# Altium footprint library MLACHM_M.PCBLIB: 91 footprints (part 3 of 7)
Each footprint in its own frame and in the unit in brackets; x right, y up, seen from the top. Pads: shape width x height; smd on the part's side, far side on the other; paste and mask are expansions set on the pad; w line width, h text height; cw(c..) or ccw(c..) is an arc to the next point about the centre after c.
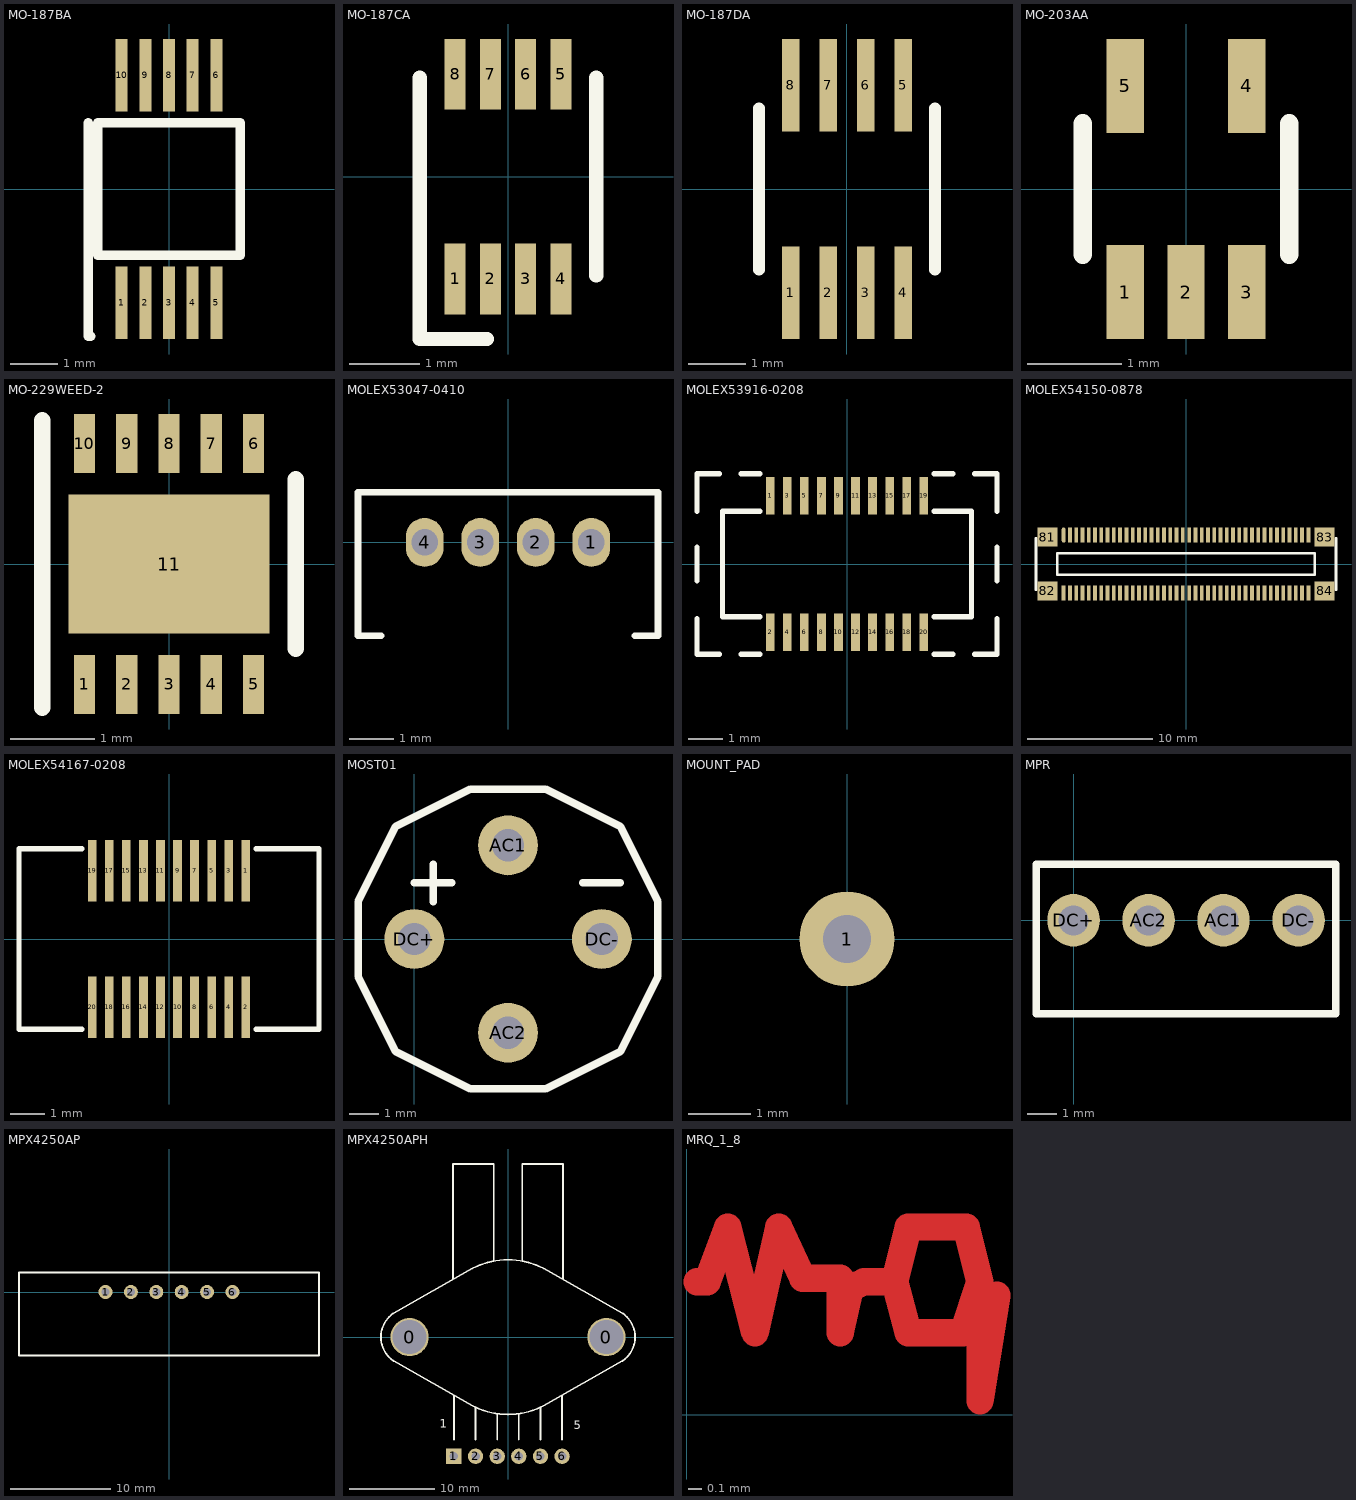
[diagram p2: the footprints below, top view; thin cyan lines are the x and y axes]

## MO-187BA [mil]
pads (10):
  rect 10x60 smd mask+6: 1(-39.37,-94.49) 2(-19.68,-94.49) 3(0,-94.49) 4(19.68,-94.49) 5(39.37,-94.49) 6(39.37,94.49) 7(19.69,94.49) 8(0,94.49) 9(-19.68,94.49) 10(-39.37,94.49)
TopOverlay:
  lines w7.87: -66.93,55.12 -66.93,-122.05 -64.96,-122.05
  lines w8: -59.06,-55 59.06,-55 59.06,55 -59.06,55 -59.06,-55
3D body: height 9.84, standoff 0, extent 35.43,-98.43 43.31,-74.8
3D body: height 43.31, standoff 9.84, extent -59.06,-59.06 59.06,59.06
3D body: height 25.59, standoff 9.84, extent 35.43,-78.74 43.31,-55.12
3D body: height 25.59, standoff 9.84, extent 15.75,-78.74 23.62,-55.12
3D body: height 9.84, standoff 0, extent 15.75,-98.43 23.62,-74.8
3D body: height 25.59, standoff 9.84, extent -3.94,-78.74 3.94,-55.12
3D body: height 9.84, standoff 0, extent -3.94,-98.43 3.94,-74.8
3D body: height 25.59, standoff 9.84, extent -23.62,-78.74 -15.75,-55.12
3D body: height 9.84, standoff 0, extent -23.62,-98.43 -15.75,-74.8
3D body: height 25.59, standoff 9.84, extent -43.31,-78.74 -35.43,-55.12
3D body: height 9.84, standoff 0, extent -43.31,-98.43 -35.43,-74.8
3D body: height 9.84, standoff 0, extent 35.43,74.8 43.31,98.43
3D body: height 25.59, standoff 9.84, extent 35.43,55.12 43.31,78.74
3D body: height 9.84, standoff 0, extent 15.75,74.8 23.62,98.43
3D body: height 25.59, standoff 9.84, extent 15.75,55.12 23.62,78.74
3D body: height 9.84, standoff 0, extent -3.94,74.8 3.94,98.43
3D body: height 25.59, standoff 9.84, extent -3.94,55.12 3.94,78.74
3D body: height 9.84, standoff 0, extent -23.62,74.8 -15.75,98.43
3D body: height 25.59, standoff 9.84, extent -23.62,55.12 -15.75,78.74
3D body: height 25.59, standoff 9.84, extent -43.31,55.12 -35.43,78.74
3D body: height 9.84, standoff 0, extent -43.31,74.8 -35.43,98.43

## MO-187CA [mm]
pads (8):
  rect 0.3x1 smd mask+0.152: 1(-0.75,-1.45) 2(-0.25,-1.45) 3(0.25,-1.45) 4(0.75,-1.45) 5(0.75,1.45) 6(0.25,1.45) 7(-0.25,1.45) 8(-0.75,1.45)
TopOverlay:
  lines w0.2: -1.25,-2.3 -0.3,-2.3
  lines w0.203: -1.25,-2.3 -1.25,1.4 ; 1.25,-1.4 1.25,1.4
3D body: height 0.25, standoff 0, extent 0.65,1.25 0.85,1.55
3D body: height 0.65, standoff 0.25, extent 0.65,1.05 0.85,1.35
3D body: height 0.65, standoff 0.25, extent 0.15,1.05 0.35,1.35
3D body: height 0.25, standoff 0, extent 0.15,1.25 0.35,1.55
3D body: height 0.65, standoff 0.25, extent -0.35,1.05 -0.15,1.35
3D body: height 0.25, standoff 0, extent -0.35,1.25 -0.15,1.55
3D body: height 0.65, standoff 0.25, extent -0.85,1.05 -0.65,1.35
3D body: height 0.25, standoff 0, extent -0.85,1.25 -0.65,1.55
3D body: height 0.25, standoff 0, extent 0.65,-1.55 0.85,-1.25
3D body: height 0.65, standoff 0.25, extent 0.65,-1.35 0.85,-1.05
3D body: height 0.25, standoff 0, extent 0.15,-1.55 0.35,-1.25
3D body: height 0.65, standoff 0.25, extent 0.15,-1.35 0.35,-1.05
3D body: height 0.25, standoff 0, extent -0.35,-1.55 -0.15,-1.25
3D body: height 0.65, standoff 0.25, extent -0.35,-1.35 -0.15,-1.05
3D body: height 0.9, standoff 0.1, extent -1,-1.15 1,1.15
3D body: height 0.65, standoff 0.25, extent -0.85,-1.35 -0.65,-1.05
3D body: height 0.25, standoff 0, extent -0.85,-1.55 -0.65,-1.25

## MO-187DA [mm]
pads (8):
  rect 0.3x1.6 smd mask+0.152: 1(-0.975,-1.8) 2(-0.325,-1.8) 3(0.325,-1.8) 4(0.975,-1.8) 5(0.975,1.8) 6(0.325,1.8) 7(-0.325,1.8) 8(-0.975,1.8)
TopOverlay:
  lines w0.203: -1.525,-1.4 -1.525,1.4 ; 1.525,-1.4 1.525,1.4
3D body: height 0.25, standoff 0, extent -1.075,-2.5 -0.875,-1.9
3D body: height 0.65, standoff 0.25, extent -1.075,-2 -0.875,-1.4
3D body: height 1.1, standoff 0.25, extent -1.475,-1.5 1.525,1.5
3D body: height 0.65, standoff 0.25, extent -0.425,-2 -0.225,-1.4
3D body: height 0.25, standoff 0, extent -0.425,-2.5 -0.225,-1.9
3D body: height 0.65, standoff 0.25, extent 0.225,-2 0.425,-1.4
3D body: height 0.25, standoff 0, extent 0.225,-2.5 0.425,-1.9
3D body: height 0.65, standoff 0.25, extent 0.875,-2 1.075,-1.4
3D body: height 0.25, standoff 0, extent 0.875,-2.5 1.075,-1.9
3D body: height 0.25, standoff 0, extent -1.075,1.9 -0.875,2.5
3D body: height 0.65, standoff 0.25, extent -1.075,1.4 -0.875,2
3D body: height 0.25, standoff 0, extent -0.425,1.9 -0.225,2.5
3D body: height 0.65, standoff 0.25, extent -0.425,1.4 -0.225,2
3D body: height 0.25, standoff 0, extent 0.225,1.9 0.425,2.5
3D body: height 0.65, standoff 0.25, extent 0.225,1.4 0.425,2
3D body: height 0.65, standoff 0.25, extent 0.875,1.4 1.075,2
3D body: height 0.25, standoff 0, extent 0.875,1.9 1.075,2.5

## MO-203AA [mm]
pads (5):
  rect 0.4x1 smd paste-0.025 mask+0.05: 1(-0.65,-1.1) 2(0,-1.1) 3(0.65,-1.1) 4(0.65,1.1) 5(-0.65,1.1)
TopOverlay:
  lines w0.2: -1.1,-0.7 -1.1,0.7 ; 1.1,-0.7 1.1,0.7
3D body: height 1.1, standoff 0, extent -1.1,-0.7 1.1,0.7
3D body: height 0.3, standoff 0, extent -0.15,-1.2 0.15,-0.7
3D body: height 0.3, standoff 0, extent -0.8,-1.2 -0.5,-0.7
3D body: height 0.3, standoff 0, extent 0.5,-1.2 0.8,-0.7
3D body: height 0.3, standoff 0, extent 0.5,0.7 0.8,1.2
3D body: height 0.3, standoff 0, extent -0.8,0.7 -0.5,1.2

## MO-229WEED-2 [mm]
pads (11):
  rect 0.25x0.7 smd paste-0.02 mask+0.04: 1(-1,-1.425) 2(-0.5,-1.425) 3(0,-1.425) 4(0.5,-1.425) 5(1,-1.425) 6(1,1.425) 7(0.5,1.425) 8(0,1.425) 9(-0.5,1.425) 10(-1,1.425)
  rect 2.38x1.65 smd paste-0.1 mask+0.04: 11(0,0)
TopOverlay:
  lines w0.2: -1.5,-1.7 -1.5,1.7 ; 1.5,-1 1.5,1
3D body: height 0.75, standoff 0, extent -1.5,-1.5 1.5,1.5

## MO-241BATHPAD [mm]

## MOLEX53047-0410 [mm]
pads (4):
  oval 0.85x1.1 hole 0.6: 1(1.875,0) 2(0.625,0) 3(-0.625,0) 4(-1.875,0)
TopOverlay:
  lines w0.15: -3.375,1.1 -3.375,-2.1 -2.85,-2.1 ; -3.375,1.125 3.375,1.125 ; 2.85,-2.1 3.375,-2.1 3.375,1.1
3D body: height 4.2, standoff -2.3, extent -3.375,-2.1 3.375,1.1

## MOLEX53916-0208 [mm]
pads (20):
  rect 0.254x1.092 smd: 1(-2.25,2) 2(-2.25,-2) 3(-1.75,2) 4(-1.75,-2) 5(-1.25,2) 6(-1.25,-2) 7(-0.75,2) 8(-0.75,-2) 9(-0.25,2) 10(-0.25,-2) 11(0.25,2) 12(0.25,-2) 13(0.75,2) 14(0.75,-2) 15(1.25,2) 16(1.25,-2) 17(1.75,2) 18(1.75,-2) 19(2.25,2) 20(2.25,-2)
TopOverlay:
  lines w0.152: -4.4,-1.6 -4.4,-2.65 -3.75,-2.65 ; -4.4,-0.5 -4.4,0.5 ; -4.4,1.55 -4.4,2.65 -3.75,2.65 ; -3.1,-2.65 -2.55,-2.65 ; -3.1,2.65 -2.55,2.65 ; -2.55,-1.55 -3.65,-1.55 -3.65,1.55 -2.55,1.55 ; 2.55,-2.65 3.1,-2.65 ; 2.55,-1.55 3.65,-1.55 3.65,1.55 2.55,1.55 ; 2.55,2.65 3.1,2.65 ; 3.75,-2.65 4.4,-2.65 4.4,-1.6 ; 3.75,2.65 4.4,2.65 4.4,1.55 ; 4.4,-0.5 4.4,0.5

## MOLEX54150-0878 [mm]
pads (84):
  oval 0.3x1.2 smd: 1(-9.75,2.3)
  rect 0.3x1.2 smd: 2(-9.75,-2.3) 3(-9.25,2.3) 4(-9.25,-2.3) 5(-8.75,2.3) 6(-8.75,-2.3) 7(-8.25,2.3) 8(-8.25,-2.3) 9(-7.75,2.3) 10(-7.75,-2.3) 11(-7.25,2.3) 12(-7.25,-2.3) 13(-6.75,2.3) 14(-6.75,-2.3) 15(-6.25,2.3) 16(-6.25,-2.3) 17(-5.75,2.3) 18(-5.75,-2.3) 19(-5.25,2.3) 20(-5.25,-2.3) 21(-4.75,2.3) 22(-4.75,-2.3) 23(-4.25,2.3) 24(-4.25,-2.3) 25(-3.75,2.3) 26(-3.75,-2.3) 27(-3.25,2.3) 28(-3.25,-2.3) 29(-2.75,2.3) 30(-2.75,-2.3) 31(-2.25,2.3) 32(-2.25,-2.3) 33(-1.75,2.3) 34(-1.75,-2.3) 35(-1.25,2.3) 36(-1.25,-2.3) 37(-0.75,2.3) 38(-0.75,-2.3) 39(-0.25,2.3) 40(-0.25,-2.3) 41(0.25,2.3) 42(0.25,-2.3) 43(0.75,2.3) 44(0.75,-2.3) 45(1.25,2.3) 46(1.25,-2.3) 47(1.75,2.3) 48(1.75,-2.3) 49(2.25,2.3) 50(2.25,-2.3) 51(2.75,2.3) 52(2.75,-2.3) 53(3.25,2.3) 54(3.25,-2.3) 55(3.75,2.3) 56(3.75,-2.3) 57(4.25,2.3) 58(4.25,-2.3) 59(4.75,2.3) 60(4.75,-2.3) 61(5.25,2.3) 62(5.25,-2.3) 63(5.75,2.3) 64(5.75,-2.3) 65(6.25,2.3) 66(6.25,-2.3) 67(6.75,2.3) 68(6.75,-2.3) 69(7.25,2.3) 70(7.25,-2.3) 71(7.75,2.3) 72(7.75,-2.3) 73(8.25,2.3) 74(8.25,-2.3) 75(8.75,2.3) 76(8.75,-2.3) 77(9.25,2.3) 78(9.25,-2.3) 79(9.75,2.3) 80(9.75,-2.3)
  rect 1.6x1.5 smd: 81(-11.05,2.15) 82(-11.05,-2.15) 83(11.05,2.15) 84(11.05,-2.15)
TopOverlay:
  lines w0.203: -11.95,-2.05 -11.95,2.05 ; 11.95,-2.05 11.95,2.05 ; -10.25,-0.85 -10.25,0.85 10.25,0.85 10.25,-0.85 -10.25,-0.85

## MOLEX54167-0208 [mm]
pads (20):
  rect 0.254x1.803 smd: 1(2.25,2) 2(2.25,-2) 3(1.75,2) 4(1.75,-2) 5(1.25,2) 6(1.25,-2) 7(0.75,2) 8(0.75,-2) 9(0.25,2) 10(0.25,-2) 11(-0.25,2) 12(-0.25,-2) 13(-0.75,2) 14(-0.75,-2) 15(-1.25,2) 16(-1.25,-2) 17(-1.75,2) 18(-1.75,-2) 19(-2.25,2) 20(-2.25,-2)
TopOverlay:
  lines w0.152: -2.55,-2.65 -4.4,-2.65 -4.4,2.65 -2.55,2.65 ; 2.55,-2.65 4.4,-2.65 4.4,2.65 2.55,2.65

## MOST01 [mil]
pads (4):
  round 80 hole 43: AC1(125,125) AC2(125,-125) DC+(0,0) DC-(250,0)
TopOverlay:
  lines w10: 0,75 50,75 ; 25,50 25,100 ; 225,75 275,75 ; -75,-50 -25,-150 75,-200 175,-200 275,-150 325,-50 325,50 275,150 175,200 75,200 -25,150 -75,50 -75,-50

## MOUNT_PAD [mil]
pads (1):
  round 60 hole 30: 1(0,0)
BottomOverlay:
  circle w10: c0,0 r94.49

## MPR [mil]
pads (4):
  round 70 hole 40: AC1(200,0) AC2(100,0) DC+(0,0) DC-(300,0)
TopOverlay:
  lines w10: -50,-125 -50,75 350,75 350,-125 -50,-125

## MPX4250AP [mm]
pads (6):
  round 1.4 hole 0.8: 1(-6.35,0) 2(-3.81,0) 3(-1.27,0) 4(1.27,0) 5(3.81,0) 6(6.35,0)
TopOverlay:
  lines w0.2: -15,-6.35 -15,1.95 15,1.95 15,-6.35 -15,-6.35

## MPX4250APH [mm]
pads (8):
  round 4.5 hole 4: 0(-11.557,0) 0(11.557,0)
  rect 1.8x1.8 hole 1: 1(-6.35,-14)
  round 1.8 hole 1: 2(-3.81,-14) 3(-1.27,-14) 4(1.27,-14) 5(3.81,-14) 6(6.35,-14)
TopOverlay:
  lines w0.2: -13.453,-2.8 -4.191,-8.077 ; -13.453,2.8 -4.191,8.077 ; -6.452,6.787 -6.452,20.32 -1.676,20.32 -1.676,8.966 ; -6.35,-12.065 -6.35,-6.859 ; -3.81,-12.065 -3.81,-8.306 ; -1.27,-12.065 -1.27,-9.017 ; 1.27,-12.065 1.27,-8.992 ; 1.676,8.966 1.676,20.32 6.452,20.32 6.452,6.787 ; 3.81,-12.065 3.81,-8.255 ; 4.191,-8.077 13.453,-2.8 ; 4.191,8.077 13.453,2.8 ; 6.35,-12.065 6.35,-6.887
  lines w0.203: -13.461,-2.775 cw(c-11.557,0) -14.922,0 cw(c-11.557,0) -13.461,2.775 ; -4.182,-8.06 ccw(c0,0) 0,-9.08 ccw(c0,0) 4.182,-8.06 ; -4.182,8.06 cw(c0,0) 0,9.08 cw(c0,0) 4.182,8.06 ; 13.461,-2.775 ccw(c11.557,0) 14.922,0 ccw(c11.557,0) 13.461,2.775
  text "5" at 7.747,-10.795 h1
  text "1" at -8.001,-10.668 h1
3D body: height 5.89, standoff 5.52, extent 5.588,-14.478 7.112,-5.715
3D body: height 5.89, standoff 5.52, extent 3.048,-14.478 4.572,-5.715
3D body: height 5.89, standoff 5.52, extent 0.508,-14.478 2.032,-5.715
3D body: height 5.89, standoff 5.52, extent -2.032,-14.478 -0.508,-5.715
3D body: height 5.89, standoff 5.52, extent -4.572,-14.478 -3.048,-5.715
3D body: height 5.89, standoff 5.52, extent -7.112,-14.478 -5.588,-5.715
3D body: height 11.05, standoff 0, extent -14.859,-9.144 14.986,9.144
3D body: height 4.92, standoff 0, extent 1.569,4.953 6.477,20.193
3D body: height 10.97, standoff 6.05, extent -6.477,4.953 -1.569,20.193
3D body: height 5.54, standoff 0, extent -6.78,-14.478 -5.92,-13.616
3D body: height 5.54, standoff 0, extent -4.24,-14.478 -3.38,-13.616
3D body: height 5.54, standoff 0, extent -1.7,-14.478 -0.84,-13.616
3D body: height 5.54, standoff 0, extent 0.84,-14.478 1.7,-13.616
3D body: height 5.54, standoff 0, extent 3.38,-14.478 4.24,-13.616
3D body: height 5.54, standoff 0, extent 5.92,-14.478 6.78,-13.616

## MRQ_1_8 [mm]
TopLayer:
  lines w0.203: 0.076,0.991 0.152,0.991 0.305,1.397 0.508,0.61 0.686,1.397 0.864,1.016 1.143,1.016 1.143,0.61 1.219,0.94 1.321,0.991 1.549,0.991 ; 2.311,0.889 2.184,0.102 2.184,0.991 ; 1.549,0.991 1.651,0.61 2.057,0.61 2.184,0.991 ; 1.549,0.991 1.651,1.397 2.083,1.397 2.184,0.991
TopSolder:
  lines w0.406: 0.076,0.991 0.152,0.991 0.305,1.397 0.508,0.61 0.686,1.397 0.864,1.016 1.143,1.016 1.143,0.61 1.219,0.94 1.321,0.991 1.549,0.991 ; 2.311,0.889 2.184,0.102 2.184,0.991 ; 1.549,0.991 1.651,0.61 2.057,0.61 2.184,0.991 ; 1.549,0.991 1.651,1.397 2.083,1.397 2.184,0.991